# Altium schematic symbol library Connectors_USB.SchLib: 2 symbols
Pins are listed as number, name and electrical type; pins without a type are passive.

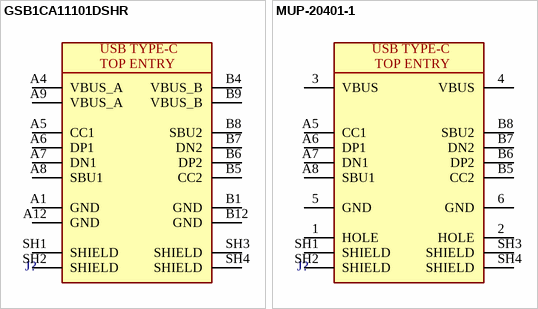
[diagram p0: symbols GSB1CA11101DSHR to MUP-20401-1]

## GSB1CA11101DSHR
designator J?
USB-C (USB TYPE-C) USB 2.0 Receptacle Connector 24 (16+8 Dummy) Position Surface Mount, Through Hole; Manufacturer 1: Amphenol ICC (Commercial Products); Manufacturer Part Number 1: *; Package: 24 (16+8 Dummy); Value: *
footprint GSB1CA11101DSHR (USB-C (USB TYPE-C) USB 2.0 Receptacle Connector 24 (16+8 Dummy) Position Surface Mount, Through Hole)
pins: A1 GND (power), A4 VBUS_A (power), A5 CC1, A6 DP1, A7 DN1, A8 SBU1, A9 VBUS_A (power), A12 GND (power), B1 GND (power), B4 VBUS_B (power), B5 CC2, B6 DP2, B7 DN2, B8 SBU2, B9 VBUS_B (power), B12 GND (power), SH1 SHIELD, SH2 SHIELD, SH3 SHIELD, SH4 SHIELD
text: USB TYPE-C; TOP ENTRY

## MUP-20401-1
designator J?
Connector USB TYPE - C 24 (16+8) Pin Horizontal; Manufacturer Part Number 1: MUP; Manufacturer 1: MUP-20401; Number of Contact: 24 (16 + 8 Dummy); Gender: Receptacle; Specifications: USB 2.0; Value: *; Mounting Direction: Horizontal; Operating Temperature: -40C - 85C; ComponentLink1Description: Reference; ComponentLink1URL: https://gct.co/files/specs/usb4105-spec.pdf; Supplier 1: *; Supplier Part Number 1: *
footprint MUP-20401-1 (Connector USB TYPE - C 24 (16+8) Pin Horizontal)
pins: 1 HOLE (power), 2 HOLE (power), 3 VBUS (power), 4 VBUS (power), 5 GND (power), 6 GND (power), A5 CC1, A6 DP1, A7 DN1, A8 SBU1, B5 CC2, B6 DP2, B7 DN2, B8 SBU2, SH1 SHIELD, SH2 SHIELD, SH3 SHIELD, SH4 SHIELD
text: USB TYPE-C; TOP ENTRY